# EAGLE library part PIC12F1501 (library nestWidget)
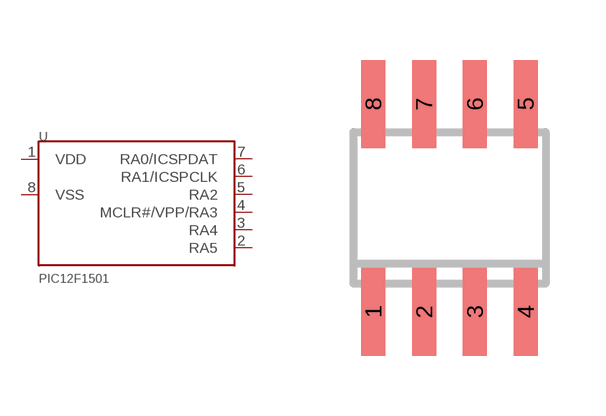
[diagram p0: symbol with the pads of SO-08; footprint SO-08]

Designator prefix U

## PIC12F1501SN  [SO-08]
1  VDD
2  RA5
3  RA4
4  MCLR#/VPP/RA3
5  RA2
6  RA1/ICSPCLK
7  RA0/ICSPDAT
8  VSS

## Footprint SO-08 (pad centres in mm)
Small Outline Narrow Plastic Gull Wing 150-mil body, package type SN
smd 0.6 x 2.2: 1 -1.905,-2.6; 2 -0.635,-2.6; 3 0.635,-2.6; 4 1.905,-2.6; 5 1.905,2.6; 6 0.635,2.6; 7 -0.635,2.6; 8 -1.905,2.6